# Altium footprint library 轻触开关.PcbLib: 1 footprints
Each footprint in its own frame and in the unit in brackets; x right, y up, seen from the top. Pads: shape width x height; smd on the part's side, far side on the other; paste and mask are expansions set on the pad; w line width, h text height; cw(c..) or ccw(c..) is an arc to the next point about the centre after c.
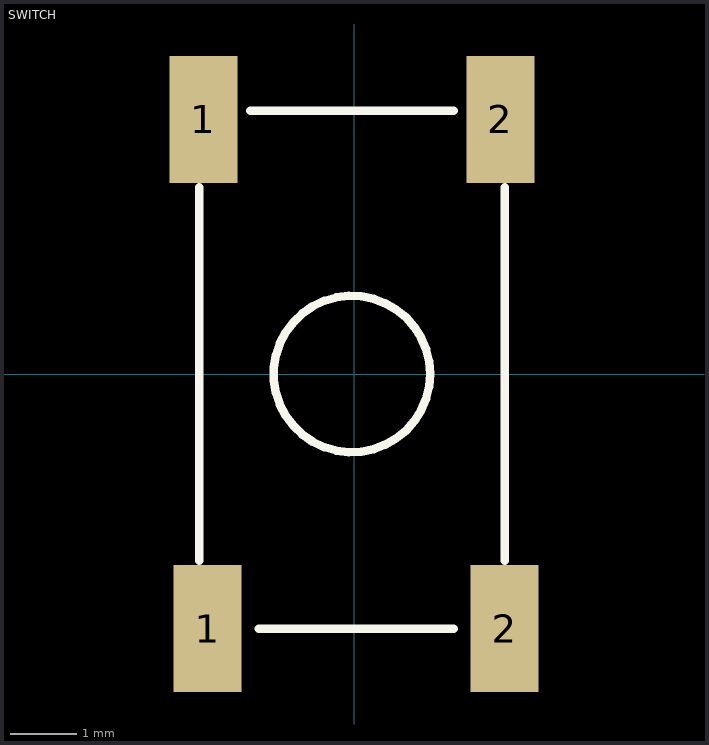
[diagram p0: the footprint, top view; thin cyan lines are the x and y axes]

## SWITCH [mil] "轻触开关"
pads (4):
  rect 40x75 smd: 1(-88.75,150) 1(-86.25,-150) 2(86.25,150) 2(88.75,-150)
Top Overlay:
  circle w5: c-1.25,0 r46.1
  lines w5: -91.25,-110 -91.25,110 ; -61.25,155 58.75,155 ; -56.25,-150 58.75,-150 ; 88.75,-110 88.75,110